# Altium footprint library ASPI-6045S-220M-T.PcbLib: 1 footprints
Each footprint in its own frame and in the unit in brackets; x right, y up, seen from the top. Pads: shape width x height; smd on the part's side, far side on the other; paste and mask are expansions set on the pad; w line width, h text height; cw(c..) or ccw(c..) is an arc to the next point about the centre after c.
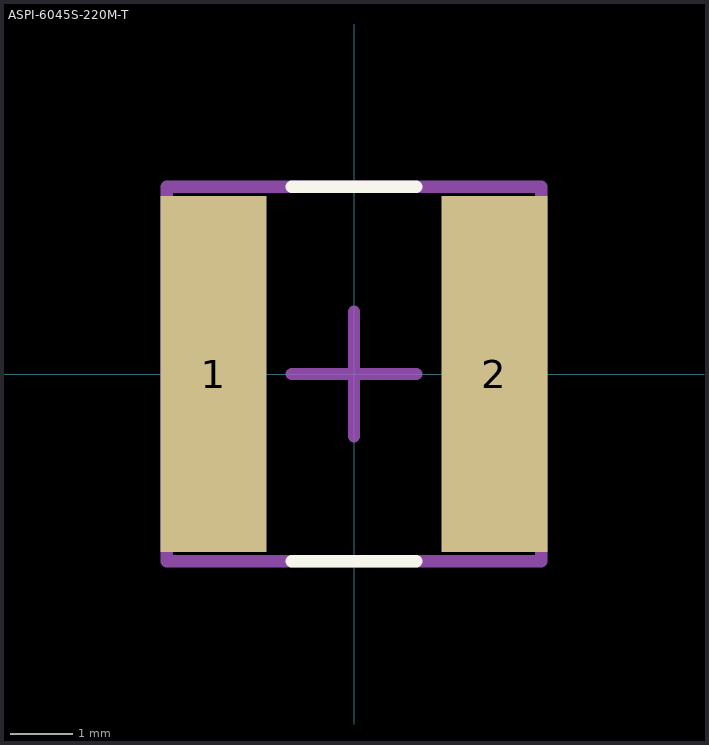
[diagram p0: the footprint, top view; thin cyan lines are the x and y axes]

## ASPI-6045S-220M-T [mm]
height 4.2
pads (2):
  rect 1.7x5.7 smd mask+0: 1(-2.25,0) 2(2.25,0)
Top Overlay:
  lines w0.2: -1,-3 1,-3 ; -1,3 1,3
Top Designator:
  text ".Designator" at -7.618,-0.508 h1.52
3D Body:
  lines w0.2: -3,-3 3,-3 3,3 -3,3 -3,-3
Center Cross:
  lines w0.2: -1,0 0,0 ; 0,-1 0,0 ; 0,1 0,0 ; 1,0 0,0
3D body "ASPI-6045S-220M-T.step": height 4.51, standoff 0.01, extent -3,-3 3,3